# Altium integrated library CS4271.IntLib: 1 symbol
Pins are listed as number, name and electrical type; pins without a type are passive.

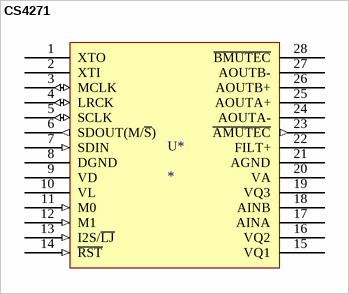
[diagram p0: symbol CS4271]

## CS4271
designator U*
24-Bit, 192 kHz Stereo Audio CODEC
footprint TSOP28
pins: 1 XTO, 2 XTI, 3 MCLK (io), 4 LRCK (io), 5 SCLK (io), 6 SDOUT(M/~{S}) (out), 7 SDIN (in), 8 DGND, 9 VD, 10 VL, 11 M0 (in), 12 M1 (in), 13 I2S/~{LJ} (in), 14 ~{RST} (in), 15 VQ1, 16 VQ2, 17 AINA, 18 AINB, 19 VQ3, 20 VA, 21 AGND, 22 FILT+, 23 ~{AMUTEC} (out), 24 AOUTA-, 25 AOUTA+, 26 AOUTB+, 27 AOUTB-, 28 ~{BMUTEC}